# EAGLE library part POLOLUDRV8835V2 (library Me433lib)
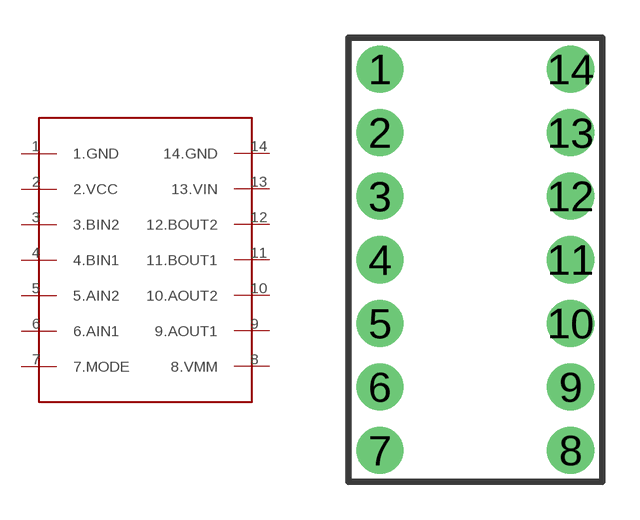
[diagram p12: symbol with the pads of 1X07V2; footprint 1X07V2]

Designator prefix -

## POLOLUDRV8835V2  [1X07V2]
1  1.GND
2  2.VCC
3  3.BIN2
4  4.BIN1
5  5.AIN2
6  6.AIN1
7  7.MODE
8  8.VMM
9  9.AOUT1
10  10.AOUT2
11  11.BOUT1
12  12.BOUT2
13  13.VIN
14  14.GND

## Footprint 1X07V2 (pad centres in mm)
Plated Through Hole -7 Pin Specifications: Pin count:7 Pin pitch:0.1" Example device(s): CONN_07
drill 1.016 pad 1.88: 1 0,0; 2 0,-2.54; 3 0,-5.08; 4 0,-7.62; 5 0,-10.16; 6 0,-12.7; 7 0,-15.24; 8 7.62,-15.24; 9 7.62,-12.7; 10 7.62,-10.16; 11 7.62,-7.62; 12 7.62,-5.08; 13 7.62,-2.54; 14 7.62,0